# Altium schematic symbol library Custom Library.SchLib: 1 symbol
Pins are listed as number, name and electrical type; pins without a type are passive.

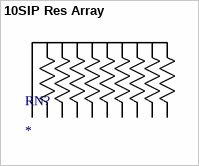
[diagram p0: symbol 10SIP Res Array]

## 10SIP Res Array
designator RN?
footprint 10SIP Res Array
pins: 1, 2, 3, 4, 5, 6, 7, 8, 9, 10